# EAGLE library part 19-337C_RGB_LED (library ZHAW_BA)
RGB LED 19-337C/RSBHGHC-A88/4T, R:2.05V, G:2.9V, B:2.9V @20mA Distrelec: Pt.Nr: 110-42-217 https://www.distrelec.ch/de/smd-led-rgb-468nm-gr-518nm-632nm-everlight-electronics-19-337-r6ghbhc-a01-2t/p/11042217?queryFromSuggest=true DigiKey: Pt.Nr: 1080-1631-1-ND https://www.digikey.ch/product-detail/de/everlight-electronics-co-ltd/19-337C-RSBHGHC-A88-4T/1080-1631-1-ND/10059591
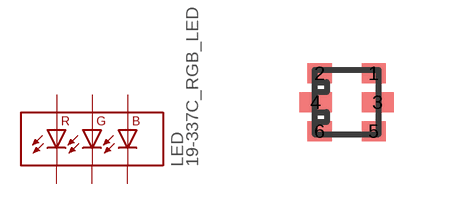
[diagram p9: symbol with the pads of 19-337C_RGB_LED; footprint 19-337C_RGB_LED]

Designator prefix LED

## 19-337C_RGB_LED  [19-337C_RGB_LED]
1  GC  pas
2  GA  pas
3  RC  pas
4  RA  pas
5  BC  pas
6  BA  pas

## Footprint 19-337C_RGB_LED (pad centres in mm)
smd 0.6 x 0.5: 1 0.675,0.725; 2 -0.675,0.725; 5 0.675,-0.725; 6 -0.675,-0.725
smd 0.8 x 0.5: 3 0.775,0; 4 -0.775,0